# Altium integrated library Linear Technology Power Management Switching Regulator LTC1174-LTC3901.IntLib: 2647 symbols (part 240 of 364)
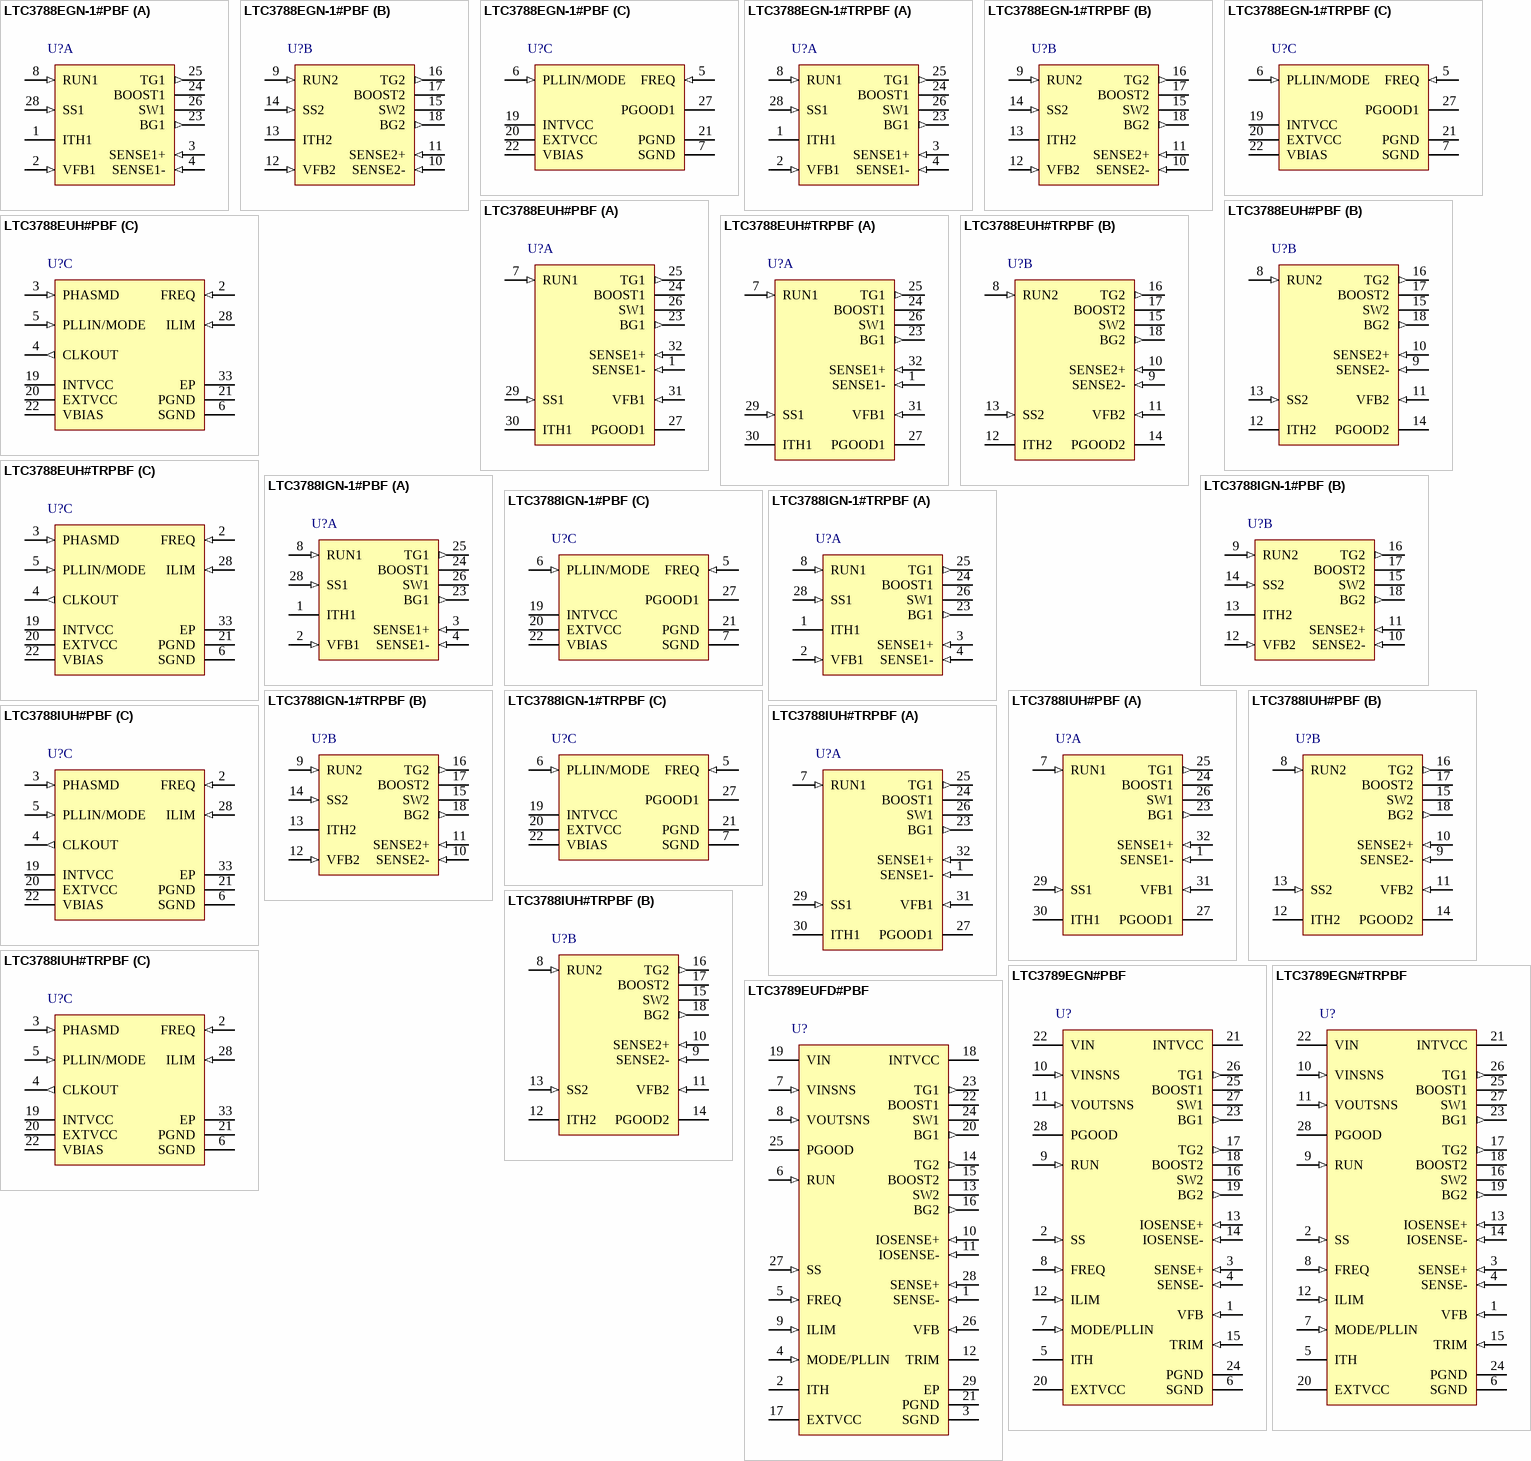
[diagram p239: symbols LTC3788EGN-1#PBF to LTC3789EUFD#PBF]

## LTC3788IUH#TRPBF
designator U?
2-Phase, Dual Output Synchronous Boost Controller, 32-pin QFN (UH-32), -40 to 125 degC, Pb-Free, Tape and Reel; Manufacturer: Linear Technology; PartNumber: LTC3788IUH#TRPBF; Frequency Sync Range: 75kHz - 850kHz; Number of Outputs: 2; DatasheetVersion: Rev. C; PackageVersion: Rev. D, 06/2010; PackageReference: UH-32; PackageDescription: 32-Pin Plastic QFN, Body 5 x 5 mm, Pitch 0.5 mm; Supplier 1: Digi-Key; Supplier Part Number 1: LTC3788IUH#TRPBF-ND; Packing: Tape and Reel; RoHS: TRUE; Mounting Technology: Surface Mount; Code_JEDEC: MO-220; ComponentLink1Description: Manufacturer URL; ComponentLink1URL: http://www.linear.com/; ComponentLink2Description: Datasheet; ComponentLink2URL: http://cds.linear.com/docs/en/datasheet/3788fc.pdf; ComponentLink3Description: Package Specification; ComponentLink3URL: http://cds.linear.com/docs/en/packaging/QFN_32_05-08-1693.pdf
footprint LT-UH-32_N (QFN, 32-Leads, Body 5.1x5.1mm, Pitch 0.5mm, Thermal Pad 3.45X3.45mm, IPC Medium Density)
footprint LT-UH-32_L (QFN, 32-Leads, Body 5.1x5.1mm, Pitch 0.5mm, Thermal Pad 3.45X3.45mm, IPC High Density)
footprint LT-UH-32_M (QFN, 32-Leads, Body 5.1x5.1mm, Pitch 0.5mm, Thermal Pad 3.45X3.45mm, IPC Low Density)
part A pins: 1 SENSE1- (in) "Negative Current Sense Comparator Input. The (-) input to the current comparator  is normally connected to the negative terminal of a current sense resistor connected in series with the inductor.  The common mode voltage (See Datasheet)", 7 RUN1 (in) "Run Control Input. Anexternal resistor divider connects to VIN and sets the thresholds for  converter operation with a threshold of 1.28V. Once running, a 4.5uA current is sourced from the RUN pin allowing  the user to (See Datasheet)", 23 BG1 (out) "Bottom Gate. Connect to the  gate of the main NMOS.", 24 BOOST1 "Floating power supply for the synchronous NMOS. Bypass to SW with a capacitor  and supply with a Schottky diode connected to INTVCC.", 25 TG1 (out) "Top Gate. Connect to the gate  of the synchronous NMOS.", 26 SW1 "Switch Node. Connect to the  source of the synchronous NMOS, the drain of the main  NMOS and the inductor", 27 PGOOD1 (oc) "Power Good Indicator for Channel 1.  Open-drain logic output that is pulled to ground when  the output voltage is more than +/-10% away from the  regulated output voltage. To avoid false trips the output  voltage must be (See Datasheet)", 29 SS1 (in) "Output Soft-Start Input. A  capacitor to ground at this pin sets the ramp rate of the  output voltage during start-up.", 30 ITH1 "Current Control Threshold  and Error Amplifier Compensation Point. The voltage on  this pin sets the current trip threshold.", 31 VFB1 (in) "Error Amplifier Feedback  Input. This pin receives the remotely sensed feedback  voltagefromanexternalresistivedividerconnectedacross the output.", 32 SENSE1+ (in) "Positive Current  Sense Comparator Input. The (+) input to the current  comparator is normally connected to the positive terminal  of a current sense resistor. The current sense resistor  is normally placed at the input of (See Datasheet)"
part B pins: 8 RUN2 (in) "Run Control Input. Anexternal resistor divider connects to VIN and sets the thresholds for  converter operation with a threshold of 1.28V. Once running, a 4.5uA current is sourced from the RUN pin allowing  the user to (See Datasheet)", 9 SENSE2- (in) "Negative Current Sense Comparator Input. The (-) input to the current comparator  is normally connected to the negative terminal of a current sense resistor connected in series with the inductor.  The common mode voltage (See Datasheet)", 10 SENSE2+ (in) "Positive Current  Sense Comparator Input. The (+) input to the current  comparator is normally connected to the positive terminal  of a current sense resistor. The current sense resistor  is normally placed at the input of (See Datasheet)", 11 VFB2 (in) "Error Amplifier Feedback  Input. This pin receives the remotely sensed feedback  voltage from an external resistive divider connected across the output.", 12 ITH2 "Current Control Threshold  and Error Amplifier Compensation Point. The voltage on  this pin sets the current trip threshold.", 13 SS2 (in) "Output Soft-Start Input. A  capacitor to ground at this pin sets the ramp rate of the  output voltage during start-up.", 14 PGOOD2 (oc) "Power Good Indicator for Channel 2.  Open-drain logic output that is pulled to ground when  the output voltage is more than +/-10% away from the  regulated output voltage. To avoid false trips the output  voltage must be (See Datasheet)", 15 SW2 "Switch Node. Connect to the  source of the synchronous NMOS, the drain of the main  NMOS and the inductor", 16 TG2 (out) "Top Gate. Connect to the gate  of the synchronous NMOS.", 17 BOOST2 "Floating power supply for the synchronous NMOS. Bypass to SW with a capacitor  and supply with a Schottky diode connected to INTVCC.", 18 BG2 (out) "Bottom Gate. Connect to the  gate of the main NMOS."
part C pins: 2 FREQ (in) "The frequency control pin for the internal  VCO. Connecting the pin to GND forces the VCO to a fixed  low frequency of 350kHz. Connecting the pin to INTVCC forces the VCO to a fixed high frequency of 535kHz. The  frequency (See Datasheet)", 3 PHASMD (in) "This pin can be floated, tied to SGND, or  tied to INTVCC to program the phase relationship between  the rising edges of BG1 and BG2, as well as the phase  relationship between BG1 and CLKOUT.", 4 CLKOUT (out) "A Digital Output Used for Daisychaining  MultipleLTC3788ICsinMultiphaseSystems. ThePHASMD pin voltage controls the relationship between BG1, BG2  and CLKOUT. This pin swings between SGND and INTVCC.", 5 PLLIN/MODE (in) "External Synchronization Input to Phase Detector and Forced Continuous Mode Input.  When an external clock is applied to this pin, it will force  the controller into forced continuous mode of operation  and the phase-locked (See Datasheet)", 6 SGND (power) "Signal Ground. All small-signal components and compensation components should connect to this  ground, which in turn connects to PGNDat a single point.", 19 INTVCC (power) "Output of Internal 5.4V LDO. Power  supply for control circuits and gate drives. Decouple this  pin to GND with a minimum 4.7uF low ESR tantalum or  ceramic capacitor.", 20 EXTVCC (power) "External Power Input. When this pin is  higher than 4.8V an internal switch bypasses the internal  regulatorandsupplypowertoINTVCCdirectlyfromEXTVCC.", 21 PGND (power) "Driver Power Ground. Connects to the  sources of bottom (main) N-channel MOSFETs and the  (-) terminal(s) of CIN and COUT.", 22 VBIAS (power) "Main Supply Pin. It is normally tied to the  input supply VIN or to the output of the boost converter.  A bypass capacitor should be tied between this pin and  the signal ground pin. The operating voltage range on this  pin (See Datasheet)", 28 ILIM (in) "Current Comparator Sense Voltage Range  Input. This pin is used to set the peak current sense voltage in the current comparator. Connect this pin to SGND,  open and INTVCC to set the peak current sense voltage to  50mV, (See Datasheet)", 33 EP (power) "Ground. The exposed pad  must be soldered to the circuit board for rated thermal  performance."

## LTC3789EGN#PBF
designator U?
High Efficiency, Synchronous, 4-Switch Buck-Boost Controller, 28-pin SOP (GN-28), -40 to 125 degC, Pb-Free; Manufacturer: Linear Technology; PartNumber: LTC3789EGN#PBF; Frequency Sync Range: 200kHz - 600kHz; Number of Outputs: 1; DatasheetVersion: Rev. A; PackageVersion: Rev. B, 03/2012; PackageReference: GN-28; PackageDescription: 28-Pin Plastic SSOP, Body 9.9 x 3.9 mm, Pitch 0.635 mm; Supplier 1: Digi-Key; Supplier Part Number 1: LTC3789EGN#PBF-ND; Supplier 2: Farnell; Supplier Part Number 2: 2102662; Supplier 3: Newark; Supplier Part Number 3: 24T0452; RoHS: TRUE; Mounting Technology: Surface Mount; ComponentLink1Description: Manufacturer URL; ComponentLink1URL: http://www.linear.com/; ComponentLink2Description: Datasheet; ComponentLink2URL: http://cds.linear.com/docs/en/datasheet/3789fa.pdf; ComponentLink3Description: Package Specification; ComponentLink3URL: http://cds.linear.com/docs/en/packaging/05081641_B_GN28.pdf
footprint LT-GN-28_N (SOP, 28-Leads, Body 9.98x3.98mm, Pitch 0.635mm, IPC Medium Density)
footprint LT-GN-28_L (SOP, 28-Leads, Body 9.98x3.98mm, Pitch 0.635mm, IPC High Density)
footprint LT-GN-28_M (SOP, 28-Leads, Body 9.98x3.98mm, Pitch 0.635mm, IPC Low Density)
pins: 1 VFB (in) "Error Amplifier Feedback Pin. Receives the feedback voltage for the controller from an external resistive divider across the output.", 2 SS (in) "External Soft-Start Input. The LTC3789 regulates the VFB voltage to the smaller of 0.8V or the voltage on the SS pin. A internal 3uA pull-up current source is connected to this pin. A capacitor to ground at this pin sets the (See Datasheet)", 3 SENSE+ (in) "The (+) Input to the Current Sense Comparator. The ITH pin voltage and controlled offsets between the SENSE- and SENSE+ pins, in conjunction with RSENSE, set the current trip threshold.", 4 SENSE- (in) "The (-) Input to the Current Sense Comparator.", 5 ITH "Error Amplifier Output and Switching Regulator Compensation Point. The channel’s current comparator trip point increases with this control voltage.", 6 SGND (power) "Small Signal Ground. Must be routed separately from high current grounds to the common (-) terminals of the CIN capacitors. In the QFN package, the exposed pad is SGND. It must be soldered to PCB ground for rated thermal (See Datasheet)", 7 MODE/PLLIN (in), 8 FREQ (in) "Frequency Set Pin. There is a precision 10uA current flowing out of this pin. A resistor to ground sets a voltage which, in turn, programs the frequency. Alternatively, this pin can be driven with a DC voltage to vary the (See Datasheet)", 9 RUN (in) "Run Control Input. Forcing the pin below 0.5V shuts down the controller, reducing quiescent current. There are 1.2uA pull-up currents for this pin. Once the RUN pin rises above 1.22V, the IC is turned on, and an additional (See Datasheet)", 10 VINSNS (in) "VIN Sense Input to the Buck-Boost Transition Comparator. Connect this pin to the drain of the top N-channel MOSFET on the input side.", 11 VOUTSNS (in) "VOUT Sense Input to the Buck- Boost Transition Comparator. Connect this pin to the drain of the top N-channel MOSFET on the output side.", 12 ILIM (in) "Input/Output Average Current Sense Range Input. This pin tied to SGND, INTVCC or left floating, sets the maximum average current sense threshold.", 13 IOSENSE+ (in) "The (+) Input to the Input/Output Average Current Sense Amplifier.", 14 IOSENSE- (in) "The (-) Input to the Input/Output Average Current Sense Amplifier.", 15 TRIM (in) "Tie this pin to GND for normal operation. Do not allow this pin to float.", 16 SW2 "Switch Node Connections to Inductors. Voltage swing at the SW1 pin is from a Schottky diode (external) voltage drop below ground to VIN. Voltage swing at the SW2 pin is from a Schottky diode voltage drop below ground to VOUT.", 17 TG2 (out) "High Current Gate Drives for Top N-Channel MOSFETs. These are the outputs of floating drivers with a voltage swing equal to INTVCC - 0.5V superimposed on the switch node voltage SW.", 18 BOOST2 "Bootstrapped Supplies to the Top Side Floating Drivers. Capacitors are connected between the BOOST and SW pins and Schottky diodes are tied between the BOOST and INTVCC pins. Voltage swing at the BOOST1 pin is from INTVCC to (See Datasheet)", 19 BG2 (out) "High Current Gate Drives for Bottom (Synchronous) N-Channel MOSFETs. Voltage swing at these pins is from ground to INTVCC.", 20 EXTVCC (power) "External Power Input to an Internal LDO Connected to INTVCC. This LDO supplies INTVCC power, bypassing the internal LDO powered from VIN whenever EXTVCC is higher than 4.8V. See EXTVCC Connection in the Applications (See Datasheet)", 21 INTVCC (power) "Output of the Internal Linear Low Dropout Regulator. The driver and control circuits are powered from this voltage source. Must be bypassed to power ground with a minimum of 4.7uF tantalum, ceramic, or other low ESR (See Datasheet)", 22 VIN (power) "Main Supply Pin. A bypass capacitor should be tied between this pin and the signal ground pin.", 23 BG1 (out) "High Current Gate Drives for Bottom (Synchronous) N-Channel MOSFETs. Voltage swing at these pins is from ground to INTVCC.", 24 PGND (power) "Driver Power Ground. Connects to COUT and RSENSE (-) terminal(s) of CIN.", 25 BOOST1 "Bootstrapped Supplies to the Top Side Floating Drivers. Capacitors are connected between the BOOST and SW pins and Schottky diodes are tied between the BOOST and INTVCC pins. Voltage swing at the BOOST1 pin is from INTVCC to (See Datasheet)", 26 TG1 (out) "High Current Gate Drives for Top N-Channel MOSFETs. These are the outputs of floating drivers with a voltage swing equal to INTVCC - 0.5V superimposed on the switch node voltage SW.", 27 SW1 "Switch Node Connections to Inductors. Voltage swing at the SW1 pin is from a Schottky diode (external) voltage drop below ground to VIN. Voltage swing at the SW2 pin is from a Schottky diode voltage drop below ground to VOUT.", 28 PGOOD (oc) "Open-Drain Logic Output. PGOOD is pulled to ground when the voltage on the VFB pin is not within +/-10% of its regulation window, after the internal 20us power-bad mask timer expires."

## LTC3789EGN#TRPBF
designator U?
High Efficiency, Synchronous, 4-Switch Buck-Boost Controller, 28-pin SOP (GN-28), -40 to 125 degC, Pb-Free, Tape and Reel; Manufacturer: Linear Technology; PartNumber: LTC3789EGN#TRPBF; Frequency Sync Range: 200kHz - 600kHz; Number of Outputs: 1; DatasheetVersion: Rev. A; PackageVersion: Rev. B, 03/2012; PackageReference: GN-28; PackageDescription: 28-Pin Plastic SSOP, Body 9.9 x 3.9 mm, Pitch 0.635 mm; Supplier 1: Digi-Key; Supplier Part Number 1: LTC3789EGN#TRPBF-ND; Supplier 2: Newark; Supplier Part Number 2: 24T0453; Packing: Tape and Reel; RoHS: TRUE; Mounting Technology: Surface Mount; ComponentLink1Description: Manufacturer URL; ComponentLink1URL: http://www.linear.com/; ComponentLink2Description: Datasheet; ComponentLink2URL: http://cds.linear.com/docs/en/datasheet/3789fa.pdf; ComponentLink3Description: Package Specification; ComponentLink3URL: http://cds.linear.com/docs/en/packaging/05081641_B_GN28.pdf
footprint LT-GN-28_N (SOP, 28-Leads, Body 9.98x3.98mm, Pitch 0.635mm, IPC Medium Density)
footprint LT-GN-28_L (SOP, 28-Leads, Body 9.98x3.98mm, Pitch 0.635mm, IPC High Density)
footprint LT-GN-28_M (SOP, 28-Leads, Body 9.98x3.98mm, Pitch 0.635mm, IPC Low Density)
pins: 1 VFB (in) "Error Amplifier Feedback Pin. Receives the feedback voltage for the controller from an external resistive divider across the output.", 2 SS (in) "External Soft-Start Input. The LTC3789 regulates the VFB voltage to the smaller of 0.8V or the voltage on the SS pin. A internal 3uA pull-up current source is connected to this pin. A capacitor to ground at this pin sets the (See Datasheet)", 3 SENSE+ (in) "The (+) Input to the Current Sense Comparator. The ITH pin voltage and controlled offsets between the SENSE- and SENSE+ pins, in conjunction with RSENSE, set the current trip threshold.", 4 SENSE- (in) "The (-) Input to the Current Sense Comparator.", 5 ITH "Error Amplifier Output and Switching Regulator Compensation Point. The channel’s current comparator trip point increases with this control voltage.", 6 SGND (power) "Small Signal Ground. Must be routed separately from high current grounds to the common (-) terminals of the CIN capacitors. In the QFN package, the exposed pad is SGND. It must be soldered to PCB ground for rated thermal (See Datasheet)", 7 MODE/PLLIN (in), 8 FREQ (in) "Frequency Set Pin. There is a precision 10uA current flowing out of this pin. A resistor to ground sets a voltage which, in turn, programs the frequency. Alternatively, this pin can be driven with a DC voltage to vary the (See Datasheet)", 9 RUN (in) "Run Control Input. Forcing the pin below 0.5V shuts down the controller, reducing quiescent current. There are 1.2uA pull-up currents for this pin. Once the RUN pin rises above 1.22V, the IC is turned on, and an additional (See Datasheet)", 10 VINSNS (in) "VIN Sense Input to the Buck-Boost Transition Comparator. Connect this pin to the drain of the top N-channel MOSFET on the input side.", 11 VOUTSNS (in) "VOUT Sense Input to the Buck- Boost Transition Comparator. Connect this pin to the drain of the top N-channel MOSFET on the output side.", 12 ILIM (in) "Input/Output Average Current Sense Range Input. This pin tied to SGND, INTVCC or left floating, sets the maximum average current sense threshold.", 13 IOSENSE+ (in) "The (+) Input to the Input/Output Average Current Sense Amplifier.", 14 IOSENSE- (in) "The (-) Input to the Input/Output Average Current Sense Amplifier.", 15 TRIM (in) "Tie this pin to GND for normal operation. Do not allow this pin to float.", 16 SW2 "Switch Node Connections to Inductors. Voltage swing at the SW1 pin is from a Schottky diode (external) voltage drop below ground to VIN. Voltage swing at the SW2 pin is from a Schottky diode voltage drop below ground to VOUT.", 17 TG2 (out) "High Current Gate Drives for Top N-Channel MOSFETs. These are the outputs of floating drivers with a voltage swing equal to INTVCC - 0.5V superimposed on the switch node voltage SW.", 18 BOOST2 "Bootstrapped Supplies to the Top Side Floating Drivers. Capacitors are connected between the BOOST and SW pins and Schottky diodes are tied between the BOOST and INTVCC pins. Voltage swing at the BOOST1 pin is from INTVCC to (See Datasheet)", 19 BG2 (out) "High Current Gate Drives for Bottom (Synchronous) N-Channel MOSFETs. Voltage swing at these pins is from ground to INTVCC.", 20 EXTVCC (power) "External Power Input to an Internal LDO Connected to INTVCC. This LDO supplies INTVCC power, bypassing the internal LDO powered from VIN whenever EXTVCC is higher than 4.8V. See EXTVCC Connection in the Applications (See Datasheet)", 21 INTVCC (power) "Output of the Internal Linear Low Dropout Regulator. The driver and control circuits are powered from this voltage source. Must be bypassed to power ground with a minimum of 4.7uF tantalum, ceramic, or other low ESR (See Datasheet)", 22 VIN (power) "Main Supply Pin. A bypass capacitor should be tied between this pin and the signal ground pin.", 23 BG1 (out) "High Current Gate Drives for Bottom (Synchronous) N-Channel MOSFETs. Voltage swing at these pins is from ground to INTVCC.", 24 PGND (power) "Driver Power Ground. Connects to COUT and RSENSE (-) terminal(s) of CIN.", 25 BOOST1 "Bootstrapped Supplies to the Top Side Floating Drivers. Capacitors are connected between the BOOST and SW pins and Schottky diodes are tied between the BOOST and INTVCC pins. Voltage swing at the BOOST1 pin is from INTVCC to (See Datasheet)", 26 TG1 (out) "High Current Gate Drives for Top N-Channel MOSFETs. These are the outputs of floating drivers with a voltage swing equal to INTVCC - 0.5V superimposed on the switch node voltage SW.", 27 SW1 "Switch Node Connections to Inductors. Voltage swing at the SW1 pin is from a Schottky diode (external) voltage drop below ground to VIN. Voltage swing at the SW2 pin is from a Schottky diode voltage drop below ground to VOUT.", 28 PGOOD (oc) "Open-Drain Logic Output. PGOOD is pulled to ground when the voltage on the VFB pin is not within +/-10% of its regulation window, after the internal 20us power-bad mask timer expires."

## LTC3789EUFD#PBF
designator U?
High Efficiency, Synchronous, 4-Switch Buck-Boost Controller, 28-pin QFN (UFD-28), -40 to 125 degC, Pb-Free; Manufacturer: Linear Technology; PartNumber: LTC3789EUFD#PBF; Frequency Sync Range: 200kHz - 600kHz; Number of Outputs: 1; DatasheetVersion: Rev. A; PackageVersion: Rev. B, 06/2010; PackageReference: UFD-28; PackageDescription: 28-Pin Plastic QFN, Body 5 x 4 mm, Pitch 0.5 mm; Supplier 1: Digi-Key; Supplier Part Number 1: LTC3789EUFD#PBF-ND; Supplier 2: Newark; Supplier Part Number 2: 24T0454; RoHS: TRUE; Mounting Technology: Surface Mount; Code_JEDEC: MO-220; ComponentLink1Description: Manufacturer URL; ComponentLink1URL: http://www.linear.com/; ComponentLink2Description: Datasheet; ComponentLink2URL: http://cds.linear.com/docs/en/datasheet/3789fa.pdf; ComponentLink3Description: Package Specification; ComponentLink3URL: http://cds.linear.com/docs/en/packaging/QFN_28_05-08-1712.pdf
footprint LT-UFD-28_N (QFN, 28-Leads, Body 5.1x4.1mm, Pitch 0.5mm, Thermal Pad 3.65x2.65mm, IPC Medium Density)
footprint LT-UFD-28_L (QFN, 28-Leads, Body 5.1x4.1mm, Pitch 0.5mm, Thermal Pad 3.65x2.65mm, IPC High Density)
footprint LT-UFD-28_M (QFN, 28-Leads, Body 5.1x4.1mm, Pitch 0.5mm, Thermal Pad 3.65x2.65mm, IPC Low Density)
pins: 1 SENSE- (in) "The (-) Input to the Current Sense  Comparator.", 2 ITH "Error Amplifier Output and Switching Regulator Compensation Point. The channel’s  current comparatortrip pointincreaseswith this control voltage.", 3 SGND (power) "Small Signal Ground. Must be routed separately from high current grounds to the common (-) terminals of the CIN capacitors. In the QFN package, the exposed pad is SGND. It must be soldered to PCB ground for rated thermal (See Datasheet)", 4 MODE/PLLIN (in) "Mode Selection or External Synchronization Input to PhaseDetector. This is a dualpurpose pin. When external frequency synchronization is not used, this pin selects the operating mode. The pin can be tied to SGND or INTVCC. (See Datasheet)", 5 FREQ (in) "FrequencySetPin. Thereis a precision 10uA current flowing out of this pin. A resistor to ground  sets a voltage which, in turn, programs the frequency.  Alternatively, this pin can be driven with a DC voltage to  vary the (See Datasheet)", 6 RUN (in) "Run Control Input. Forcing the pin  below 0.5V shuts down the controller, reducing quies-  cent current. There are 1.2uA pull-up currents for this  pin. Once the RUN pin rises above 1.22V, the IC is turned  on, and an (See Datasheet)", 7 VINSNS (in) "VIN Sense Input to the Buck-Boost  Transition Comparator. Connect this pin to the drain of the  top N-channel MOSFET on the input side.", 8 VOUTSNS (in) "VOUT Sense Input to the BuckBoost Transition Comparator. Connect this pin to the drain  of the top N-channel MOSFET on the output side.", 9 ILIM (in) "Input/Output Average Current Sense Range Input. This pin tied to SGND, INTVCC or  left floating, sets the maximum average current sense  threshold.", 10 IOSENSE+ (in) "The (+) Input to the Input/Output  Average Current Sense Amplifier", 11 IOSENSE- (in) "The (-) Input to the Input/Output  Average Current Sense Amplifier.", 12 TRIM (power) "Tie this pin to GND for normal  operation. Do not allow this pin to float.", 13 SW2 "Switch Node Connections to Inductors. Voltage swing at the SW1  pin is from a Schottky diode (external) voltage drop below ground to VIN. Voltage swing at the SW2 pin is from a Schottky diode voltage drop below ground to V (See Datasheet)", 14 TG2 (out) "High Current Gate Drives for Top N-Channel MOSFETs. These are the outputs of floating drivers with a voltage swing equal to INTVCC - 0.5V superimposed on the switch node voltage SW.", 15 BOOST2 "Bootstrapped Supplies to the Top Side Floating Drivers. Capacitors are connected between the BOOST and SW pins and Schottkydiodes are tiedbetweentheBOOSTandINTVCC pins. Voltage swing at the BOOST1 pin is from INTVCC to (VIN (See Datasheet)", 16 BG2 (out) "High Current Gate Drives for Bottom (Synchronous) N-Channel MOSFETs. Voltage swing at these pins is from ground to  INTVCC.", 17 EXTVCC (power) "External Power Input to an  Internal LDO Connected to INTVCC. This LDO supplies  INTVCC power, bypassing the internal LDO powered from  VIN whenever EXTVCC is higher than 4.8V. See EXTVCC Connection in the Applications (See Datasheet)", 18 INTVCC (power) "Output of the Internal Linear Low  Dropout Regulator. The driver and control circuits are  powered from this voltage source. Must be bypassed to  powergroundwith a minimumof 4.7uF tantalum, ceramic,  or other low ESR (See Datasheet)", 19 VIN (power) "Main Supply Pin. A bypass capa-  citor should be tied between this pin and the signal  ground pin.", 20 BG1 (out) "High Current Gate Drives for Bottom (Synchronous) N-Channel MOSFETs. Voltage swing at these pins is from ground to  INTVCC.", 21 PGND (power) "Driver Power Ground. Connects  to COUT and RSENSE (-) terminal(s) of CIN", 22 BOOST1 "Bootstrapped Supplies to the Top Side Floating Drivers. Capacitors are connected between the BOOST and SW pins and Schottkydiodes are tiedbetweentheBOOSTandINTVCC pins. Voltage swing at the BOOST1 pin is from INTVCC to (VIN (See Datasheet)", 23 TG1 (out) "High Current Gate Drives for Top N-Channel MOSFETs. These are the outputs of floating drivers with a voltage swing equal to INTVCC - 0.5V superimposed on the switch node voltage SW.", 24 SW1 "Switch Node Connections to Inductors. Voltage swing at the SW1  pin is from a Schottky diode (external) voltage drop below ground to VIN. Voltage swing at the SW2 pin is from a Schottky diode voltage drop below ground to V (See Datasheet)", 25 PGOOD (oc) "Open-Drain Logic Output.  PGOOD is pulled to groundwhen the voltage on the VFB pin is notwithin +/-10% ofits regulationwindow, afterthe internal 20us power-bad mask timer expires.", 26 VFB (in) "Error Amplifier Feedback Pin. Receives  the feedback voltage for the controller from an external  resistive divider across the output.", 27 SS (in) "ExternalSoft-StartInput. TheLTC3789 regulates the VFB voltage to the smaller of 0.8V or the voltage on the SS pin. A internal 3uA pull-up current source is connected to this pin. A capacitor to ground at this pin sets the (See Datasheet)", 28 SENSE+ (in) "The (+) Input to the Current Sense  Comparator. The ITH pin voltage and controlled offsets  between the SENSE-  and SENSE+  pins, in conjunction  with RSENSE, set the current trip threshold.", 29 EP (power) "Small Signal Ground. Must be routed separately from high current grounds to the common (-) terminals of the CIN capacitors. In the QFN package, the exposed pad is SGND. It must be soldered to PCB ground for rated thermal (See Datasheet)"

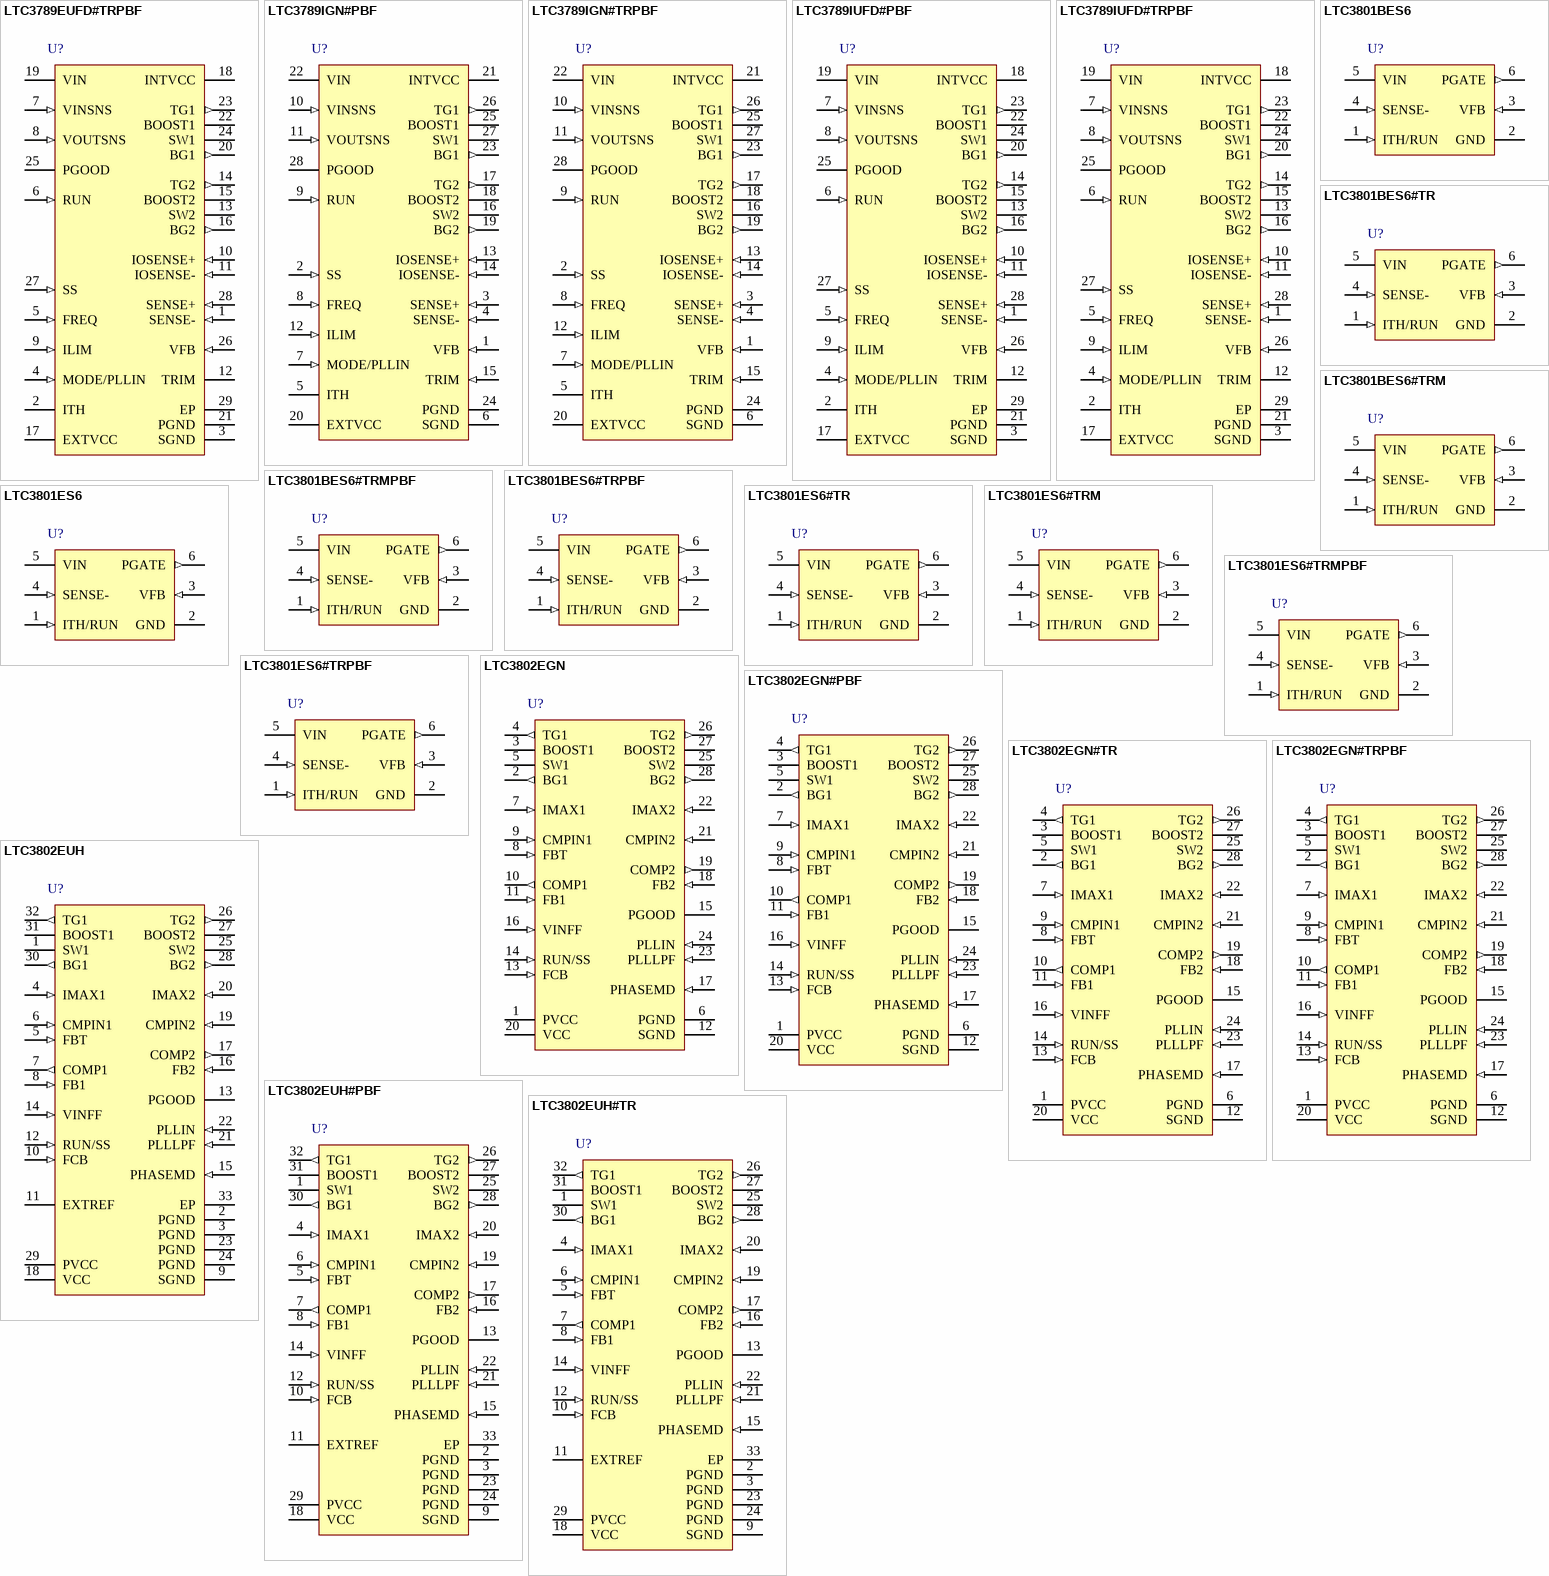
[diagram p74: symbols LTC3789EUFD#TRPBF to LTC3802EUH#TR]

## LTC3789EUFD#TRPBF
designator U?
High Efficiency, Synchronous, 4-Switch Buck-Boost Controller, 28-pin QFN (UFD-28), -40 to 125 degC, Pb-Free, Tape and Reel; Manufacturer: Linear Technology; PartNumber: LTC3789EUFD#TRPBF; Frequency Sync Range: 200kHz - 600kHz; Number of Outputs: 1; DatasheetVersion: Rev. A; PackageVersion: Rev. B, 06/2010; PackageReference: UFD-28; PackageDescription: 28-Pin Plastic QFN, Body 5 x 4 mm, Pitch 0.5 mm; Supplier 1: Digi-Key; Supplier Part Number 1: LTC3789EUFD#TRPBF-ND; Supplier 2: Newark; Supplier Part Number 2: 24T0455; Packing: Tape and Reel; RoHS: TRUE; Mounting Technology: Surface Mount; Code_JEDEC: MO-220; ComponentLink1Description: Manufacturer URL; ComponentLink1URL: http://www.linear.com/; ComponentLink2Description: Datasheet; ComponentLink2URL: http://cds.linear.com/docs/en/datasheet/3789fa.pdf; ComponentLink3Description: Package Specification; ComponentLink3URL: http://cds.linear.com/docs/en/packaging/QFN_28_05-08-1712.pdf
footprint LT-UFD-28_N (QFN, 28-Leads, Body 5.1x4.1mm, Pitch 0.5mm, Thermal Pad 3.65x2.65mm, IPC Medium Density)
footprint LT-UFD-28_L (QFN, 28-Leads, Body 5.1x4.1mm, Pitch 0.5mm, Thermal Pad 3.65x2.65mm, IPC High Density)
footprint LT-UFD-28_M (QFN, 28-Leads, Body 5.1x4.1mm, Pitch 0.5mm, Thermal Pad 3.65x2.65mm, IPC Low Density)
pins: 1 SENSE- (in) "The (-) Input to the Current Sense  Comparator.", 2 ITH "Error Amplifier Output and Switching Regulator Compensation Point. The channel’s  current comparatortrip pointincreaseswith this control voltage.", 3 SGND (power) "Small Signal Ground. Must be routed separately from high current grounds to the common (-) terminals of the CIN capacitors. In the QFN package, the exposed pad is SGND. It must be soldered to PCB ground for rated thermal (See Datasheet)", 4 MODE/PLLIN (in) "Mode Selection or External Synchronization Input to PhaseDetector. This is a dualpurpose pin. When external frequency synchronization is not used, this pin selects the operating mode. The pin can be tied to SGND or INTVCC. (See Datasheet)", 5 FREQ (in) "FrequencySetPin. Thereis a precision 10uA current flowing out of this pin. A resistor to ground  sets a voltage which, in turn, programs the frequency.  Alternatively, this pin can be driven with a DC voltage to  vary the (See Datasheet)", 6 RUN (in) "Run Control Input. Forcing the pin  below 0.5V shuts down the controller, reducing quies-  cent current. There are 1.2uA pull-up currents for this  pin. Once the RUN pin rises above 1.22V, the IC is turned  on, and an (See Datasheet)", 7 VINSNS (in) "VIN Sense Input to the Buck-Boost  Transition Comparator. Connect this pin to the drain of the  top N-channel MOSFET on the input side.", 8 VOUTSNS (in) "VOUT Sense Input to the BuckBoost Transition Comparator. Connect this pin to the drain  of the top N-channel MOSFET on the output side.", 9 ILIM (in) "Input/Output Average Current Sense Range Input. This pin tied to SGND, INTVCC or  left floating, sets the maximum average current sense  threshold.", 10 IOSENSE+ (in) "The (+) Input to the Input/Output  Average Current Sense Amplifier", 11 IOSENSE- (in) "The (-) Input to the Input/Output  Average Current Sense Amplifier.", 12 TRIM (power) "Tie this pin to GND for normal  operation. Do not allow this pin to float.", 13 SW2 "Switch Node Connections to Inductors. Voltage swing at the SW1  pin is from a Schottky diode (external) voltage drop below ground to VIN. Voltage swing at the SW2 pin is from a Schottky diode voltage drop below ground to V (See Datasheet)", 14 TG2 (out) "High Current Gate Drives for Top N-Channel MOSFETs. These are the outputs of floating drivers with a voltage swing equal to INTVCC - 0.5V superimposed on the switch node voltage SW.", 15 BOOST2 "Bootstrapped Supplies to the Top Side Floating Drivers. Capacitors are connected between the BOOST and SW pins and Schottkydiodes are tiedbetweentheBOOSTandINTVCC pins. Voltage swing at the BOOST1 pin is from INTVCC to (VIN (See Datasheet)", 16 BG2 (out) "High Current Gate Drives for Bottom (Synchronous) N-Channel MOSFETs. Voltage swing at these pins is from ground to  INTVCC.", 17 EXTVCC (power) "External Power Input to an  Internal LDO Connected to INTVCC. This LDO supplies  INTVCC power, bypassing the internal LDO powered from  VIN whenever EXTVCC is higher than 4.8V. See EXTVCC Connection in the Applications (See Datasheet)", 18 INTVCC (power) "Output of the Internal Linear Low  Dropout Regulator. The driver and control circuits are  powered from this voltage source. Must be bypassed to  powergroundwith a minimumof 4.7uF tantalum, ceramic,  or other low ESR (See Datasheet)", 19 VIN (power) "Main Supply Pin. A bypass capa-  citor should be tied between this pin and the signal  ground pin.", 20 BG1 (out) "High Current Gate Drives for Bottom (Synchronous) N-Channel MOSFETs. Voltage swing at these pins is from ground to  INTVCC.", 21 PGND (power) "Driver Power Ground. Connects  to COUT and RSENSE (-) terminal(s) of CIN", 22 BOOST1 "Bootstrapped Supplies to the Top Side Floating Drivers. Capacitors are connected between the BOOST and SW pins and Schottkydiodes are tiedbetweentheBOOSTandINTVCC pins. Voltage swing at the BOOST1 pin is from INTVCC to (VIN (See Datasheet)", 23 TG1 (out) "High Current Gate Drives for Top N-Channel MOSFETs. These are the outputs of floating drivers with a voltage swing equal to INTVCC - 0.5V superimposed on the switch node voltage SW.", 24 SW1 "Switch Node Connections to Inductors. Voltage swing at the SW1  pin is from a Schottky diode (external) voltage drop below ground to VIN. Voltage swing at the SW2 pin is from a Schottky diode voltage drop below ground to V (See Datasheet)", 25 PGOOD (oc) "Open-Drain Logic Output.  PGOOD is pulled to groundwhen the voltage on the VFB pin is notwithin +/-10% ofits regulationwindow, afterthe internal 20us power-bad mask timer expires.", 26 VFB (in) "Error Amplifier Feedback Pin. Receives  the feedback voltage for the controller from an external  resistive divider across the output.", 27 SS (in) "ExternalSoft-StartInput. TheLTC3789 regulates the VFB voltage to the smaller of 0.8V or the voltage on the SS pin. A internal 3uA pull-up current source is connected to this pin. A capacitor to ground at this pin sets the (See Datasheet)", 28 SENSE+ (in) "The (+) Input to the Current Sense  Comparator. The ITH pin voltage and controlled offsets  between the SENSE-  and SENSE+  pins, in conjunction  with RSENSE, set the current trip threshold.", 29 EP (power) "Small Signal Ground. Must be routed separately from high current grounds to the common (-) terminals of the CIN capacitors. In the QFN package, the exposed pad is SGND. It must be soldered to PCB ground for rated thermal (See Datasheet)"

## LTC3789IGN#PBF
designator U?
High Efficiency, Synchronous, 4-Switch Buck-Boost Controller, 28-pin SOP (GN-28), -40 to 125 degC, Pb-Free; Manufacturer: Linear Technology; PartNumber: LTC3789IGN#PBF; Frequency Sync Range: 200kHz - 600kHz; Number of Outputs: 1; DatasheetVersion: Rev. A; PackageVersion: Rev. B, 03/2012; PackageReference: GN-28; PackageDescription: 28-Pin Plastic SSOP, Body 9.9 x 3.9 mm, Pitch 0.635 mm; Supplier 1: Digi-Key; Supplier Part Number 1: LTC3789IGN#PBF-ND; Supplier 2: Farnell; Supplier Part Number 2: 2295145; Supplier 3: Newark; Supplier Part Number 3: 24T0456; RoHS: TRUE; Mounting Technology: Surface Mount; ComponentLink1Description: Manufacturer URL; ComponentLink1URL: http://www.linear.com/; ComponentLink2Description: Datasheet; ComponentLink2URL: http://cds.linear.com/docs/en/datasheet/3789fa.pdf; ComponentLink3Description: Package Specification; ComponentLink3URL: http://cds.linear.com/docs/en/packaging/05081641_B_GN28.pdf
footprint LT-GN-28_N (SOP, 28-Leads, Body 9.98x3.98mm, Pitch 0.635mm, IPC Medium Density)
footprint LT-GN-28_L (SOP, 28-Leads, Body 9.98x3.98mm, Pitch 0.635mm, IPC High Density)
footprint LT-GN-28_M (SOP, 28-Leads, Body 9.98x3.98mm, Pitch 0.635mm, IPC Low Density)
pins: 1 VFB (in) "Error Amplifier Feedback Pin. Receives the feedback voltage for the controller from an external resistive divider across the output.", 2 SS (in) "External Soft-Start Input. The LTC3789 regulates the VFB voltage to the smaller of 0.8V or the voltage on the SS pin. A internal 3uA pull-up current source is connected to this pin. A capacitor to ground at this pin sets the (See Datasheet)", 3 SENSE+ (in) "The (+) Input to the Current Sense Comparator. The ITH pin voltage and controlled offsets between the SENSE- and SENSE+ pins, in conjunction with RSENSE, set the current trip threshold.", 4 SENSE- (in) "The (-) Input to the Current Sense Comparator.", 5 ITH "Error Amplifier Output and Switching Regulator Compensation Point. The channel’s current comparator trip point increases with this control voltage.", 6 SGND (power) "Small Signal Ground. Must be routed separately from high current grounds to the common (-) terminals of the CIN capacitors. In the QFN package, the exposed pad is SGND. It must be soldered to PCB ground for rated thermal (See Datasheet)", 7 MODE/PLLIN (in), 8 FREQ (in) "Frequency Set Pin. There is a precision 10uA current flowing out of this pin. A resistor to ground sets a voltage which, in turn, programs the frequency. Alternatively, this pin can be driven with a DC voltage to vary the (See Datasheet)", 9 RUN (in) "Run Control Input. Forcing the pin below 0.5V shuts down the controller, reducing quiescent current. There are 1.2uA pull-up currents for this pin. Once the RUN pin rises above 1.22V, the IC is turned on, and an additional (See Datasheet)", 10 VINSNS (in) "VIN Sense Input to the Buck-Boost Transition Comparator. Connect this pin to the drain of the top N-channel MOSFET on the input side.", 11 VOUTSNS (in) "VOUT Sense Input to the Buck- Boost Transition Comparator. Connect this pin to the drain of the top N-channel MOSFET on the output side.", 12 ILIM (in) "Input/Output Average Current Sense Range Input. This pin tied to SGND, INTVCC or left floating, sets the maximum average current sense threshold.", 13 IOSENSE+ (in) "The (+) Input to the Input/Output Average Current Sense Amplifier.", 14 IOSENSE- (in) "The (-) Input to the Input/Output Average Current Sense Amplifier.", 15 TRIM (in) "Tie this pin to GND for normal operation. Do not allow this pin to float.", 16 SW2 "Switch Node Connections to Inductors. Voltage swing at the SW1 pin is from a Schottky diode (external) voltage drop below ground to VIN. Voltage swing at the SW2 pin is from a Schottky diode voltage drop below ground to VOUT.", 17 TG2 (out) "High Current Gate Drives for Top N-Channel MOSFETs. These are the outputs of floating drivers with a voltage swing equal to INTVCC - 0.5V superimposed on the switch node voltage SW.", 18 BOOST2 "Bootstrapped Supplies to the Top Side Floating Drivers. Capacitors are connected between the BOOST and SW pins and Schottky diodes are tied between the BOOST and INTVCC pins. Voltage swing at the BOOST1 pin is from INTVCC to (See Datasheet)", 19 BG2 (out) "High Current Gate Drives for Bottom (Synchronous) N-Channel MOSFETs. Voltage swing at these pins is from ground to INTVCC.", 20 EXTVCC (power) "External Power Input to an Internal LDO Connected to INTVCC. This LDO supplies INTVCC power, bypassing the internal LDO powered from VIN whenever EXTVCC is higher than 4.8V. See EXTVCC Connection in the Applications (See Datasheet)", 21 INTVCC (power) "Output of the Internal Linear Low Dropout Regulator. The driver and control circuits are powered from this voltage source. Must be bypassed to power ground with a minimum of 4.7uF tantalum, ceramic, or other low ESR (See Datasheet)", 22 VIN (power) "Main Supply Pin. A bypass capacitor should be tied between this pin and the signal ground pin.", 23 BG1 (out) "High Current Gate Drives for Bottom (Synchronous) N-Channel MOSFETs. Voltage swing at these pins is from ground to INTVCC.", 24 PGND (power) "Driver Power Ground. Connects to COUT and RSENSE (-) terminal(s) of CIN.", 25 BOOST1 "Bootstrapped Supplies to the Top Side Floating Drivers. Capacitors are connected between the BOOST and SW pins and Schottky diodes are tied between the BOOST and INTVCC pins. Voltage swing at the BOOST1 pin is from INTVCC to (See Datasheet)", 26 TG1 (out) "High Current Gate Drives for Top N-Channel MOSFETs. These are the outputs of floating drivers with a voltage swing equal to INTVCC - 0.5V superimposed on the switch node voltage SW.", 27 SW1 "Switch Node Connections to Inductors. Voltage swing at the SW1 pin is from a Schottky diode (external) voltage drop below ground to VIN. Voltage swing at the SW2 pin is from a Schottky diode voltage drop below ground to VOUT.", 28 PGOOD (oc) "Open-Drain Logic Output. PGOOD is pulled to ground when the voltage on the VFB pin is not within +/-10% of its regulation window, after the internal 20us power-bad mask timer expires."

## LTC3789IGN#TRPBF
designator U?
High Efficiency, Synchronous, 4-Switch Buck-Boost Controller, 28-pin SOP (GN-28), -40 to 125 degC, Pb-Free, Tape and Reel; Manufacturer: Linear Technology; PartNumber: LTC3789IGN#TRPBF; Frequency Sync Range: 200kHz - 600kHz; Number of Outputs: 1; DatasheetVersion: Rev. A; PackageVersion: Rev. B, 03/2012; PackageReference: GN-28; PackageDescription: 28-Pin Plastic SSOP, Body 9.9 x 3.9 mm, Pitch 0.635 mm; Supplier 1: Digi-Key; Supplier Part Number 1: LTC3789IGN#TRPBF-ND; Supplier 2: Newark; Supplier Part Number 2: 24T0457; Packing: Tape and Reel; RoHS: TRUE; Mounting Technology: Surface Mount; ComponentLink1Description: Manufacturer URL; ComponentLink1URL: http://www.linear.com/; ComponentLink2Description: Datasheet; ComponentLink2URL: http://cds.linear.com/docs/en/datasheet/3789fa.pdf; ComponentLink3Description: Package Specification; ComponentLink3URL: http://cds.linear.com/docs/en/packaging/05081641_B_GN28.pdf
footprint LT-GN-28_N (SOP, 28-Leads, Body 9.98x3.98mm, Pitch 0.635mm, IPC Medium Density)
footprint LT-GN-28_L (SOP, 28-Leads, Body 9.98x3.98mm, Pitch 0.635mm, IPC High Density)
footprint LT-GN-28_M (SOP, 28-Leads, Body 9.98x3.98mm, Pitch 0.635mm, IPC Low Density)
pins: 1 VFB (in) "Error Amplifier Feedback Pin. Receives the feedback voltage for the controller from an external resistive divider across the output.", 2 SS (in) "External Soft-Start Input. The LTC3789 regulates the VFB voltage to the smaller of 0.8V or the voltage on the SS pin. A internal 3uA pull-up current source is connected to this pin. A capacitor to ground at this pin sets the (See Datasheet)", 3 SENSE+ (in) "The (+) Input to the Current Sense Comparator. The ITH pin voltage and controlled offsets between the SENSE- and SENSE+ pins, in conjunction with RSENSE, set the current trip threshold.", 4 SENSE- (in) "The (-) Input to the Current Sense Comparator.", 5 ITH "Error Amplifier Output and Switching Regulator Compensation Point. The channel’s current comparator trip point increases with this control voltage.", 6 SGND (power) "Small Signal Ground. Must be routed separately from high current grounds to the common (-) terminals of the CIN capacitors. In the QFN package, the exposed pad is SGND. It must be soldered to PCB ground for rated thermal (See Datasheet)", 7 MODE/PLLIN (in), 8 FREQ (in) "Frequency Set Pin. There is a precision 10uA current flowing out of this pin. A resistor to ground sets a voltage which, in turn, programs the frequency. Alternatively, this pin can be driven with a DC voltage to vary the (See Datasheet)", 9 RUN (in) "Run Control Input. Forcing the pin below 0.5V shuts down the controller, reducing quiescent current. There are 1.2uA pull-up currents for this pin. Once the RUN pin rises above 1.22V, the IC is turned on, and an additional (See Datasheet)", 10 VINSNS (in) "VIN Sense Input to the Buck-Boost Transition Comparator. Connect this pin to the drain of the top N-channel MOSFET on the input side.", 11 VOUTSNS (in) "VOUT Sense Input to the Buck- Boost Transition Comparator. Connect this pin to the drain of the top N-channel MOSFET on the output side.", 12 ILIM (in) "Input/Output Average Current Sense Range Input. This pin tied to SGND, INTVCC or left floating, sets the maximum average current sense threshold.", 13 IOSENSE+ (in) "The (+) Input to the Input/Output Average Current Sense Amplifier.", 14 IOSENSE- (in) "The (-) Input to the Input/Output Average Current Sense Amplifier.", 15 TRIM (in) "Tie this pin to GND for normal operation. Do not allow this pin to float.", 16 SW2 "Switch Node Connections to Inductors. Voltage swing at the SW1 pin is from a Schottky diode (external) voltage drop below ground to VIN. Voltage swing at the SW2 pin is from a Schottky diode voltage drop below ground to VOUT.", 17 TG2 (out) "High Current Gate Drives for Top N-Channel MOSFETs. These are the outputs of floating drivers with a voltage swing equal to INTVCC - 0.5V superimposed on the switch node voltage SW.", 18 BOOST2 "Bootstrapped Supplies to the Top Side Floating Drivers. Capacitors are connected between the BOOST and SW pins and Schottky diodes are tied between the BOOST and INTVCC pins. Voltage swing at the BOOST1 pin is from INTVCC to (See Datasheet)", 19 BG2 (out) "High Current Gate Drives for Bottom (Synchronous) N-Channel MOSFETs. Voltage swing at these pins is from ground to INTVCC.", 20 EXTVCC (power) "External Power Input to an Internal LDO Connected to INTVCC. This LDO supplies INTVCC power, bypassing the internal LDO powered from VIN whenever EXTVCC is higher than 4.8V. See EXTVCC Connection in the Applications (See Datasheet)", 21 INTVCC (power) "Output of the Internal Linear Low Dropout Regulator. The driver and control circuits are powered from this voltage source. Must be bypassed to power ground with a minimum of 4.7uF tantalum, ceramic, or other low ESR (See Datasheet)", 22 VIN (power) "Main Supply Pin. A bypass capacitor should be tied between this pin and the signal ground pin.", 23 BG1 (out) "High Current Gate Drives for Bottom (Synchronous) N-Channel MOSFETs. Voltage swing at these pins is from ground to INTVCC.", 24 PGND (power) "Driver Power Ground. Connects to COUT and RSENSE (-) terminal(s) of CIN.", 25 BOOST1 "Bootstrapped Supplies to the Top Side Floating Drivers. Capacitors are connected between the BOOST and SW pins and Schottky diodes are tied between the BOOST and INTVCC pins. Voltage swing at the BOOST1 pin is from INTVCC to (See Datasheet)", 26 TG1 (out) "High Current Gate Drives for Top N-Channel MOSFETs. These are the outputs of floating drivers with a voltage swing equal to INTVCC - 0.5V superimposed on the switch node voltage SW.", 27 SW1 "Switch Node Connections to Inductors. Voltage swing at the SW1 pin is from a Schottky diode (external) voltage drop below ground to VIN. Voltage swing at the SW2 pin is from a Schottky diode voltage drop below ground to VOUT.", 28 PGOOD (oc) "Open-Drain Logic Output. PGOOD is pulled to ground when the voltage on the VFB pin is not within +/-10% of its regulation window, after the internal 20us power-bad mask timer expires."